# Altium footprint library Gatorsynth_Sequencer.PcbLib: 9 footprints
Each footprint in its own frame and in the unit in brackets; x right, y up, seen from the top. Pads: shape width x height; smd on the part's side, far side on the other; paste and mask are expansions set on the pad; w line width, h text height; cw(c..) or ccw(c..) is an arc to the next point about the centre after c.
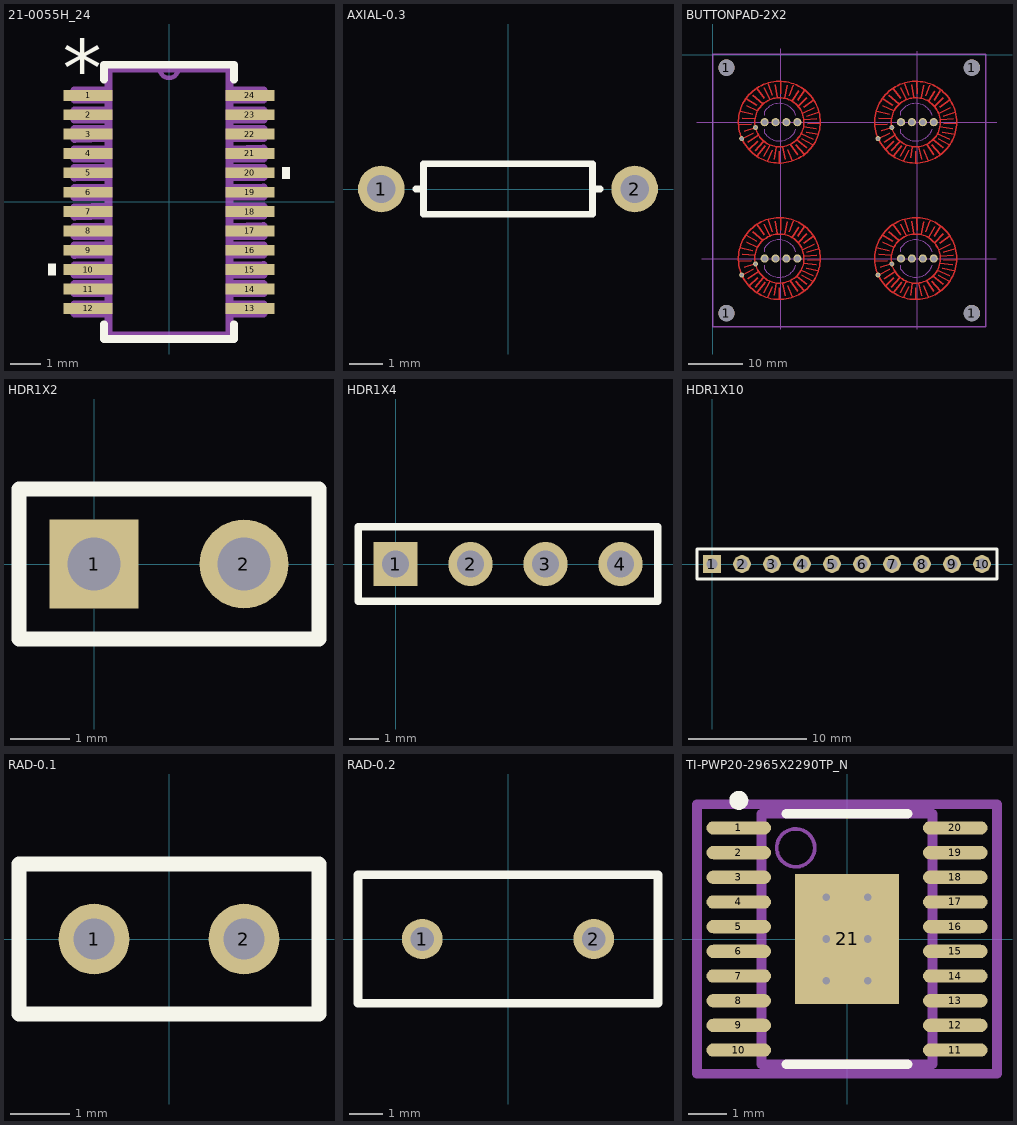
[diagram p0: the footprints below, top view; thin cyan lines are the x and y axes]

## 21-0055H_24 [mil]
pads (24):
  rect 63x14 smd: 1(-104.5,137.5) 2(-104.5,112.5) 3(-104.5,87.5) 4(-104.5,62.5) 5(-104.5,37.5) 6(-104.5,12.5) 7(-104.5,-12.5) 8(-104.5,-37.5) 9(-104.5,-62.5) 10(-104.5,-87.5) 11(-104.5,-112.5) 12(-104.5,-137.5) 13(104.5,-137.5) 14(104.5,-112.5) 15(104.5,-87.5) 16(104.5,-62.5) 17(104.5,-37.5) 18(104.5,-12.5) 19(104.5,12.5) 20(104.5,37.5) 21(104.5,62.5) 22(104.5,87.5) 23(104.5,112.5) 24(104.5,137.5)
Top Overlay:
  region: 156,45 156,30 146,30 146,45
  region: -156,-80 -156,-95 -146,-95 -146,-80
  lines w10: -84,-158 -84,-177 84,-177 84,-158 ; -84,158 -84,177 84,177 84,158
  text "*" at -137.24,136.42 h73.82
Mechanical 1:
  lines w6: -12,172 ccw(c0,172) 12,172
  lines w10: -122,-144 -78,-144 -78,-132 -122,-132 -122,-144 ; -122,-118 -78,-118 -78,-106 -122,-106 -122,-118 ; -122,-94 -78,-94 -78,-82 -122,-82 -122,-94 ; -122,-69 -78,-68 -78,-56 -122,-56 -122,-69 ; -122,-44 -78,-44 -78,-32 -122,-32 -122,-44 ; -122,-19 -78,-18 -78,-6 -122,-7 -122,-19 ; -122,6 -78,6 -78,18 -122,18 -122,6 ; -122,31 -78,32 -78,44 -122,44 -122,31 ; -122,56 -78,56 -78,68 -122,68 -122,56 ; -122,81 -78,82 -78,94 -122,94 -122,81 ; -122,106 -78,106 -78,118 -122,118 -122,106 ; -122,132 -78,132 -78,144 -122,144 -122,132 ; -78,-172 -78,172 -12,172 12,172 78,172 78,-172 -78,-172 ; 78,-144 122,-144 122,-132 78,-132 78,-144 ; 78,-118 122,-118 122,-106 78,-106 78,-118 ; 78,-94 122,-94 122,-81 78,-82 78,-94 ; 78,-68 122,-68 122,-56 78,-56 78,-68 ; 78,-44 122,-44 122,-31 78,-32 78,-44 ; 78,-18 122,-18 122,-6 78,-6 78,-18 ; 78,6 122,7 122,19 78,18 78,6 ; 78,32 122,32 122,44 78,44 78,32 ; 78,56 122,56 122,69 78,68 78,56 ; 78,82 122,82 122,94 78,94 78,82 ; 78,106 122,106 122,118 78,118 78,106 ; 78,132 122,132 122,144 78,144 78,132
  text "*" at -86.07,109.26 h73.82

## AXIAL-0.3 [mm]
pads (2):
  round 1.4 hole 0.85: 1(-3.81,0) 2(3.81,0)
Top Overlay:
  lines w0.2: -2.769,0 -2.54,0 ; 2.769,0 2.54,0 ; 2.54,0 2.54,0.762 -2.54,0.762 -2.54,-0.762 2.54,-0.762 2.54,0

## BUTTONPAD-2X2 [mm]
pads (28):
  round 3 hole 3: 1(2.508,-47.373) 1(2.508,-2.373) 1(47.508,-47.373) 1(47.508,-2.373)
  round 1.5 hole 1: BLU1(15.508,-37.373) BLU2(40.508,-37.373) BLU3(15.508,-12.373) BLU4(40.508,-12.373) GRN1(13.508,-37.373) GRN2(38.508,-37.373) GRN3(13.508,-12.373) GRN4(38.508,-12.373) RED1(9.508,-37.373) RED2(34.508,-37.373) RED3(9.508,-12.373) RED4(34.508,-12.373) VCC1(11.508,-37.373) VCC2(36.508,-37.373) VCC3(11.508,-12.373) VCC4(36.508,-12.373)
  round 0.9 hole 0.6: SIG1(5.296,-40.386) SIG2(7.836,-38.354) SIG3(30.296,-40.386) SIG4(32.836,-38.354) SIG5(5.296,-15.386) SIG6(7.836,-13.354) SIG7(30.296,-15.386) SIG8(32.836,-13.354)
Top Layer:
  circle w0.254: c37.208,-12.373 r7.5
  circle w0.254: c37.208,-37.373 r7.5
  circle w0.254: c12.208,-12.373 r7.5
  circle w0.254: c12.208,-37.373 r7.5
  lines w0.254: 4.728,-37.883 7.028,-37.743 ; 4.728,-12.883 7.028,-12.743 ; 5.048,-35.393 7.318,-35.903 ; 5.048,-10.393 7.318,-10.903 ; 5.368,-40.413 7.428,-39.373 ; 5.368,-15.413 7.428,-14.373 ; 5.448,-36.623 7.748,-36.763 ; 5.448,-11.623 7.748,-11.763 ; 5.731,-39.014 7.748,-38.373 ; 5.736,-14.012 7.748,-13.373 ; 6.138,-33.123 8.038,-34.243 ; 6.138,-8.123 8.038,-9.243 ; 6.198,-34.353 8.198,-35.293 ; 6.198,-9.353 8.198,-10.293 ; 6.438,-41.033 8.358,-39.753 ; 6.438,-16.033 8.358,-14.753 ; 6.708,-42.373 8.208,-40.873 ; 6.708,-17.373 8.208,-15.873 ; 7.288,-32.453 9.138,-34.003 ; 7.288,-7.453 9.138,-9.003 ; 7.768,-42.613 9.298,-40.923 ; 7.768,-17.613 9.298,-15.923 ; 8.118,-31.203 9.448,-33.003 ; 8.118,-6.203 9.448,-8.003 ; 8.198,-43.573 9.618,-41.733 ; 8.198,-18.573 9.618,-16.733 ; 9.358,-43.653 10.468,-41.673 ; 9.358,-18.653 10.468,-16.673 ; 9.478,-31.063 10.468,-33.153 ; 9.478,-6.063 10.468,-8.153 ; 10.048,-44.483 10.888,-42.553 ; 10.048,-19.483 10.888,-17.553 ; 10.178,-30.293 10.918,-32.423 ; 10.178,-5.293 10.918,-7.423 ; 11.243,-19.166 11.598,-16.943 ; 11.257,-44.081 11.598,-41.943 ; 11.498,-30.533 11.838,-32.803 ; 11.498,-5.533 11.838,-7.803 ; 12.208,-44.833 12.208,-42.743 ; 12.208,-19.833 12.208,-17.743 ; 12.428,-29.933 12.498,-32.163 ; 12.428,-4.933 12.498,-7.163 ; 12.798,-41.993 13.308,-44.163 ; 12.798,-16.993 13.308,-19.163 ; 13.198,-32.913 13.648,-30.613 ; 13.198,-7.913 13.648,-5.613 ; 13.708,-42.393 14.538,-44.403 ; 13.708,-17.393 14.538,-19.403 ; 14.058,-32.493 14.798,-30.563 ; 14.058,-7.493 14.798,-5.563 ; 14.188,-41.463 15.548,-43.383 ; 14.188,-16.463 15.548,-18.383 ; 14.618,-33.473 15.756,-31.623 ; 14.618,-8.473 15.756,-6.604 ; 15.178,-41.513 16.728,-43.283 ; 15.178,-16.513 16.728,-18.283 ; 15.388,-40.633 17.218,-42.073 ; 15.388,-15.633 17.218,-17.073 ; 15.578,-33.313 16.748,-31.573 ; 15.578,-8.313 16.748,-6.573 ; 15.708,-34.433 17.218,-32.853 ; 15.708,-9.433 17.218,-7.853 ; 16.188,-39.533 18.408,-40.523 ; 16.188,-14.533 18.408,-15.523 ; 16.348,-40.423 18.358,-41.493 ; 16.348,-15.423 18.358,-16.493 ; 16.508,-35.773 18.568,-34.753 ; 16.508,-10.773 18.568,-9.753 ; 16.618,-38.233 16.637,-38.236 ; 16.618,-13.233 16.637,-13.235 ; 16.648,-34.593 18.378,-33.313 ; 16.648,-9.593 18.378,-8.313 ; 16.808,-36.943 19.078,-36.783 ; 16.808,-11.943 19.078,-11.783 ; 17.098,-39.193 19.318,-39.613 ; 17.098,-14.193 19.318,-14.613 ; 17.258,-36.253 19.428,-35.553 ; 17.258,-11.253 19.428,-10.553 ; 17.388,-37.643 19.588,-37.613 ; 17.388,-12.643 19.588,-12.613 ; 19.018,-38.553 16.637,-38.236 ; 19.018,-13.553 16.637,-13.235 ; 29.728,-37.883 32.028,-37.743 ; 29.728,-12.883 32.028,-12.743 ; 30.048,-35.393 32.318,-35.903 ; 30.048,-10.393 32.318,-10.903 ; 30.368,-40.413 32.428,-39.373 ; 30.368,-15.413 32.428,-14.373 ; 30.448,-36.623 32.748,-36.763 ; 30.448,-11.623 32.748,-11.763 ; 30.748,-39.008 32.748,-38.373 ; 30.906,-13.958 32.748,-13.373 ; 31.138,-33.123 33.038,-34.243 ; 31.138,-8.123 33.038,-9.243 ; 31.198,-34.353 33.198,-35.293 ; 31.198,-9.353 33.198,-10.293 ; 31.438,-41.033 33.358,-39.753 ; 31.438,-16.033 33.358,-14.753 ; 31.708,-42.373 33.208,-40.873 ; 31.708,-17.373 33.208,-15.873 ; 32.288,-32.453 34.138,-34.003 ; 32.288,-7.453 34.138,-9.003 ; 32.768,-42.613 34.298,-40.923 ; 32.768,-17.613 34.298,-15.923 ; 33.118,-31.203 34.448,-33.003 ; 33.118,-6.203 34.448,-8.003 ; 33.198,-43.573 34.618,-41.733 ; 33.198,-18.573 34.618,-16.733 ; 34.358,-43.653 35.468,-41.673 ; 34.358,-18.653 35.468,-16.673 ; 34.478,-31.063 35.468,-33.153 ; 34.478,-6.063 35.468,-8.153 ; 35.048,-44.483 35.888,-42.553 ; 35.048,-19.483 35.888,-17.553 ; 35.178,-30.293 35.918,-32.423 ; 35.178,-5.293 35.918,-7.423 ; 36.257,-44.078 36.598,-41.943 ; 36.283,-18.916 36.598,-16.943 ; 36.498,-30.533 36.838,-32.803 ; 36.498,-5.533 36.838,-7.803 ; 37.208,-44.833 37.208,-42.743 ; 37.208,-19.833 37.208,-17.743 ; 37.428,-29.933 37.498,-32.163 ; 37.428,-4.933 37.498,-7.163 ; 37.798,-41.993 38.308,-44.163 ; 37.798,-16.993 38.308,-19.163 ; 38.198,-32.913 38.648,-30.613 ; 38.198,-7.913 38.648,-5.613 ; 38.708,-42.393 39.538,-44.403 ; 38.708,-17.393 39.538,-19.403 ; 39.058,-32.493 39.798,-30.563 ; 39.058,-7.493 39.798,-5.563 ; 39.188,-41.463 40.548,-43.383 ; 39.188,-16.463 40.548,-18.383 ; 39.618,-33.473 40.741,-31.55 ; 39.618,-8.473 40.671,-6.67 ; 40.178,-41.513 41.728,-43.283 ; 40.178,-16.513 41.728,-18.283 ; 40.388,-40.633 42.218,-42.073 ; 40.388,-15.633 42.218,-17.073 ; 40.578,-33.313 41.748,-31.573 ; 40.578,-8.313 41.748,-6.573 ; 40.708,-34.433 42.218,-32.853 ; 40.708,-9.433 42.218,-7.853 ; 41.188,-39.533 43.408,-40.523 ; 41.188,-14.533 43.408,-15.523 ; 41.348,-40.423 43.358,-41.493 ; 41.348,-15.423 43.358,-16.493 ; 41.508,-35.773 43.568,-34.753 ; 41.508,-10.773 43.568,-9.753 ; 41.618,-38.233 41.637,-38.236 ; 41.618,-13.233 41.637,-13.235 ; 41.648,-34.593 43.378,-33.313 ; 41.648,-9.593 43.378,-8.313 ; 41.808,-36.943 44.078,-36.783 ; 41.808,-11.943 44.078,-11.783 ; 42.098,-39.193 44.318,-39.613 ; 42.098,-14.193 44.318,-14.613 ; 42.258,-36.253 44.428,-35.553 ; 42.258,-11.253 44.428,-10.553 ; 42.388,-37.643 44.588,-37.613 ; 42.388,-12.643 44.588,-12.613 ; 44.018,-38.553 41.637,-38.236 ; 44.018,-13.553 41.637,-13.235 ; 16.637,-38.236 ccw(c12.218,-37.383) 12.218,-32.883 ccw(c12.218,-37.383) 16.637,-38.236 ; 16.637,-13.235 cw(c12.218,-12.383) 12.218,-7.883 cw(c12.218,-12.383) 16.637,-13.235 ; 41.637,-38.236 ccw(c37.218,-37.383) 37.218,-32.883 ccw(c37.218,-37.383) 41.637,-38.236 ; 41.637,-13.235 cw(c37.218,-12.383) 37.218,-7.883 cw(c37.218,-12.383) 41.637,-13.235
Top Solder:
  drawing of 168 lines, arcs and shapes, not listed
Mechanical 2:
  text "C1" at 11.758,-39.373 h1.57
  text "C2" at 36.758,-39.373 h1.57
  text "C3" at 11.758,-14.373 h1.57
  text "C4" at 36.758,-14.123 h1.57
Mechanical 3:
  lines w0.203: 9.508,-38.623 9.508,-39.373 ccw(c12.196,-37.561) 15.258,-38.623 ; 9.508,-36.123 9.508,-35.373 cw(c12.196,-37.186) 15.258,-36.123 ; 9.508,-13.623 9.508,-14.373 ccw(c12.196,-12.561) 15.258,-13.623 ; 9.508,-11.123 9.508,-10.373 cw(c12.196,-12.185) 15.258,-11.123 ; 34.508,-38.623 34.508,-39.373 ccw(c37.196,-37.561) 40.258,-38.623 ; 34.508,-36.123 34.508,-35.373 cw(c37.196,-37.186) 40.258,-36.123 ; 34.508,-13.623 34.508,-14.373 ccw(c37.196,-12.561) 40.258,-13.623 ; 34.508,-11.123 34.508,-10.373 cw(c37.196,-12.186) 40.258,-11.123
  lines w0.254: 0.008,-49.873 0.008,0.127 50.008,0.127 50.008,-49.873 0.008,-49.873
Mechanical 16:
  lines w0.127: -2.889,-12.373 52.111,-12.373 ; -1.992,-37.373 52.008,-37.373 ; 12.508,-50.373 12.508,1.127 ; 37.508,-50.373 37.508,0.627

## HDR1X2 [mm]
pads (2):
  rect 1.5x1.5 hole 0.9: 1(0,0)
  round 1.5 hole 0.9: 2(2.54,0)
Top Overlay:
  lines w0.254: -1.27,-1.27 3.81,-1.27 3.81,1.27 -1.27,1.27 -1.27,-1.27

## HDR1X4 [mm]
pads (4):
  rect 1.5x1.5 hole 0.9: 1(0,0)
  round 1.5 hole 0.9: 2(2.54,0) 3(5.08,0) 4(7.62,0)
Top Overlay:
  lines w0.254: -1.27,-1.27 8.89,-1.27 8.89,1.27 -1.27,1.27 -1.27,-1.27

## HDR1X10 [mm]
pads (10):
  rect 1.5x1.5 hole 0.9: 1(0,0)
  round 1.5 hole 0.9: 2(2.54,0) 3(5.08,0) 4(7.62,0) 5(10.16,0) 6(12.7,0) 7(15.24,0) 8(17.78,0) 9(20.32,0) 10(22.86,0)
Top Overlay:
  lines w0.254: -1.27,-1.27 -1.27,1.27 0.635,1.27 24.13,1.27 24.13,-1.27 -1.27,-1.27

## RAD-0.1 [mm]
pads (2):
  round 1.2 hole 0.7: 1(-1.27,0) 2(1.27,0)
Top Overlay:
  lines w0.254: -2.54,-1.27 2.54,-1.27 2.54,1.27 -2.54,1.27 -2.54,-1.27

## RAD-0.2 [mm]
pads (2):
  round 1.2 hole 0.7: 1(-2.54,0) 2(2.54,0)
Top Overlay:
  lines w0.254: -4.445,-1.905 4.445,-1.905 4.445,1.905 -4.445,1.905 -4.445,-1.905

## TI-PWP20-2965X2290TP_N [mm]
pads (21):
  oval 1.7x0.35 smd: 1(-2.85,2.925) 2(-2.85,2.275) 3(-2.85,1.625) 4(-2.85,0.975) 5(-2.85,0.325) 6(-2.85,-0.325) 7(-2.85,-0.975) 8(-2.85,-1.625) 9(-2.85,-2.275) 10(-2.85,-2.925) 11(2.85,-2.925) 12(2.85,-2.275) 13(2.85,-1.625) 14(2.85,-0.975) 15(2.85,-0.325) 16(2.85,0.325) 17(2.85,0.975) 18(2.85,1.625) 19(2.85,2.275) 20(2.85,2.925)
  rect 2.75x3.43 smd: 21(0,0)
via 0.55,1.1 diameter 0.5 hole 0.2
via -0.55,0 diameter 0.5 hole 0.2
via 0.55,-1.1 diameter 0.5 hole 0.2
via 0.55,0 diameter 0.5 hole 0.2
via -0.55,1.1 diameter 0.5 hole 0.2
via -0.55,-1.1 diameter 0.5 hole 0.2
Top Overlay:
  circle w0.25: c-2.85,3.65 r0.125
  lines w0.254: -1.6,-3.3 1.6,-3.3 ; -1.6,3.3 1.6,3.3
Mechanical 13:
  circle w0.1: c-1.35,2.4 r0.5
  lines w0.254: -2.25,-3.3 -2.25,3.3 2.25,3.3 2.25,-3.3 -2.25,-3.3
Mechanical 15:
  lines w0.254: -0.5,0 0.5,0 ; 0,-0.5 0,0.5 ; -3.95,-3.55 -3.95,3.55 3.95,3.55 3.95,-3.55 -3.95,-3.55
3D body: height 1.2, standoff 0.05, extent -2.25,-3.3 2.25,3.3